# Altium footprint library PCB - LEADED - SOP - TI VSON-10 DRC.PcbLib: 1 footprints
Each footprint in its own frame and in the unit in brackets; x right, y up, seen from the top. Pads: shape width x height; smd on the part's side, far side on the other; paste and mask are expansions set on the pad; w line width, h text height; cw(c..) or ccw(c..) is an arc to the next point about the centre after c.
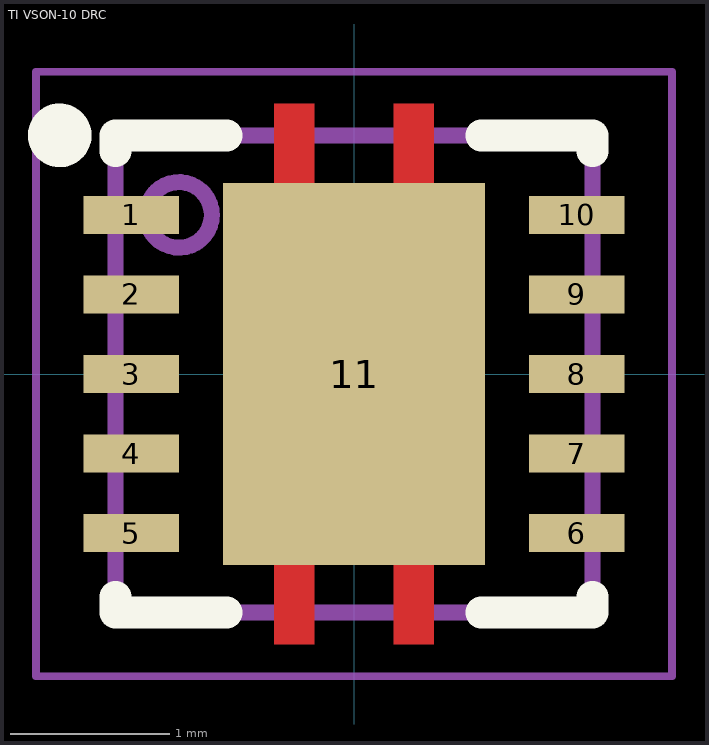
[diagram p0: the footprint, top view; thin cyan lines are the x and y axes]

## TI VSON-10 DRC [mm] "10-VSON (3x3) Package, 0.50mm Pitch, 3.00x3.00 mm Body"
height 1
pads (11):
  rect 0.6x0.24 smd: 1(-1.4,1) 2(-1.4,0.5) 3(-1.4,0) 4(-1.4,-0.5) 5(-1.4,-1) 6(1.4,-1) 7(1.4,-0.5) 8(1.4,0) 9(1.4,0.5) 10(1.4,1)
  rect 1.65x2.4 smd: 11(0,0)
Top Layer:
  region: 0.25,1.15 0.5,1.15 0.5,1.7 0.25,1.7
  region: -0.5,1.15 -0.5,1.7 -0.25,1.7 -0.25,1.15
  region: -0.5,-1.7 -0.25,-1.7 -0.25,-1.15 -0.5,-1.15
  region: 0.25,-1.7 0.25,-1.15 0.5,-1.15 0.5,-1.7
Top Overlay:
  circle w0.2: c-1.85,1.5 r0.1
  lines w0.2: -1.5,-1.4 -1.5,-1.5 -0.8,-1.5 ; -1.5,1.4 -1.5,1.5 ; 0.8,-1.5 1.5,-1.5 1.5,-1.4 ; 0.8,1.5 1.5,1.5 1.5,1.4 ; -1.5,1.5 -0.8,1.5 ; -1.5,1.5 -1.5,1.5 ; -0.8,1.5 -0.8,1.5
Mechanical 13:
  circle w0.1: c-1.1,1 r0.206
  lines w0.1: -1.5,-1.5 1.5,-1.5 1.5,1.5 -1.5,1.5 -1.5,-1.5
Mechanical 15 (Mech15):
  lines w0.05: -2,-1.9 2,-1.9 2,1.9 -2,1.9 -2,-1.9
  lines w0.1: -0.5,0 0,0 ; 0,-0.5 0,0 ; 0,0.5 0,0 ; 0.5,0 0,0
3D body: height 1, standoff 0, extent -1.5,-1.5 1.5,1.5